# Altium schematic symbol library TL431LIACDBZR.SchLib: 2 symbols
Pins are listed as number, name and electrical type; pins without a type are passive.

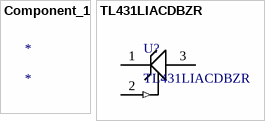
[diagram p0: symbols Component_1 to TL431LIACDBZR]

## Component_1
designator *

## TL431LIACDBZR
designator U?
No Description Available; Mfr_Name: Texas Instruments; Type: DEV; RefDes: RefDes; Copyright: Copyright (C) 2022 Ultra Librarian. All rights reserved.; Manufacturer_Part_Number: TL431LIACDBZR
footprint DBZ0003A_N
pins: 1 CATHODE, 2 REF (in), 3 ANODE